# Altium footprint library BSP100.PcbLib: 3 footprints
Each footprint in its own frame and in the unit in brackets; x right, y up, seen from the top. Pads: shape width x height; smd on the part's side, far side on the other; paste and mask are expansions set on the pad; w line width, h text height; cw(c..) or ccw(c..) is an arc to the next point about the centre after c.
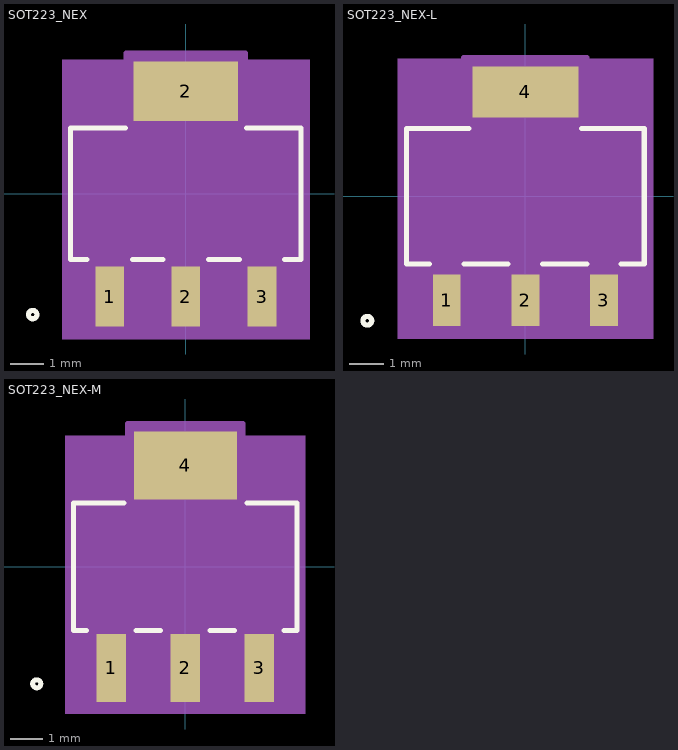
[diagram p0: the footprints below, top view; thin cyan lines are the x and y axes]

## SOT223_NEX [mil]
pads (4):
  rect 34x71 smd paste+0 mask+0: 1(-90.55,-122) 2(0,-122) 3(90.55,-122)
  rect 124x71 smd paste+0 mask+0: 2(0,122)
Top Overlay:
  circle w6: c-182,-143.5 r5
  lines w6: -117.52,-78 -137,-78 -137,78 -71.97,78 ; -63.58,-78 -26.97,-78 ; 26.97,-78 63.58,-78 ; 71.97,78 137,78 137,-78 117.52,-78
Mechanical 5:
  region: -147,159.5 147,159.5 147,-172.5 -147,-172.5
Mechanical 13:
  circle w0: c-122,-63 r5
  lines w1: -132,-73 -132,73 132,73 132,-73 -132,-73 ; -106.55,-143.5 -74.55,-143.5 -74.55,-73 -106.55,-73 -106.55,-143.5 ; -61,73 -61,143.5 61,143.5 61,73 -61,73 ; -16,-143.5 16,-143.5 16,-73 -16,-73 -16,-143.5 ; 74.55,-143.5 106.55,-143.5 106.55,-73 74.55,-73 74.55,-143.5
Mechanical 15:
  region: -142,-83 -142,83 -71,83 -71,167.5 71,167.5 71,83 142,83 142,-83 116.55,-83 116.55,-167.5 -116.55,-167.5 -116.55,-83
  lines w6: -142,-83 -116.55,-83 -116.55,-167.5 116.55,-167.5 116.55,-83 142,-83 142,83 71,83 71,167.5 -71,167.5 -71,83 -142,83 -142,-83
3D body "SOT223_NEX.step": height 71.1, standoff 0, extent -132.01,-143.5 132.01,143.5

## SOT223_NEX-L [mil]
pads (4):
  rect 32x59 smd paste+0 mask+0: 1(-90.55,-120) 2(0,-120) 3(90.55,-120)
  rect 122x59 smd paste+0 mask+0: 4(0,120)
Top Overlay:
  circle w6: c-182,-143.5 r5
  lines w6: -110.47,-78 -137,-78 -137,78 -64.92,78 ; -70.63,-78 -19.92,-78 ; 19.92,-78 70.63,-78 ; 64.92,78 137,78 137,-78 110.47,-78
Mechanical 5:
  region: -147,158.5 147,158.5 147,-164.5 -147,-164.5
Mechanical 13:
  circle w0: c-122,-63 r5
  lines w1: -132,-73 132,-73 132,73 -132,73 -132,-73 ; -106.55,-143.5 -106.55,-73 -74.55,-73 -74.55,-143.5 -106.55,-143.5 ; -61,73 61,73 61,143.5 -61,143.5 -61,73 ; -16,-143.5 -16,-73 16,-73 16,-143.5 -16,-143.5 ; 74.55,-143.5 74.55,-73 106.55,-73 106.55,-143.5 74.55,-143.5
Mechanical 15:
  region: -142,-83 -142,83 -71,83 -71,159.5 71,159.5 71,83 142,83 142,-83 116.55,-83 116.55,-159.5 -116.55,-159.5 -116.55,-83
  lines w6: -142,-83 -142,83 -71,83 -71,159.5 71,159.5 71,83 142,83 142,-83 116.55,-83 116.55,-159.5 -116.55,-159.5 -116.55,-83 -142,-83
3D body "SOT223_NEX.step": height 71.1, standoff 0, extent -132.01,-143.5 132.01,143.5

## SOT223_NEX-M [mil]
pads (4):
  rect 36x83 smd paste+0 mask+0: 1(-90.55,-124) 2(0,-124) 3(90.55,-124)
  rect 126x83 smd paste+0 mask+0: 4(0,124)
Top Overlay:
  circle w6: c-182,-143.5 r5
  lines w6: -120.85,-78 -137,-78 -137,78 -75.3,78 ; -60.25,-78 -30.3,-78 ; 30.3,-78 60.25,-78 ; 75.3,78 137,78 137,-78 120.85,-78
Mechanical 5:
  region: -147,160.5 147,160.5 147,-180.5 -147,-180.5
Mechanical 13:
  circle w0: c-122,-63 r5
  lines w1: -132,-73 132,-73 132,73 -132,73 -132,-73 ; -106.55,-143.5 -106.55,-73 -74.55,-73 -74.55,-143.5 -106.55,-143.5 ; -61,73 61,73 61,143.5 -61,143.5 -61,73 ; -16,-143.5 -16,-73 16,-73 16,-143.5 -16,-143.5 ; 74.55,-143.5 74.55,-73 106.55,-73 106.55,-143.5 74.55,-143.5
Mechanical 15:
  region: -142,-83 -142,83 -71,83 -71,175.5 71,175.5 71,83 142,83 142,-83 116.55,-83 116.55,-175.5 -116.55,-175.5 -116.55,-83
  lines w6: -142,-83 -142,83 -71,83 -71,175.5 71,175.5 71,83 142,83 142,-83 116.55,-83 116.55,-175.5 -116.55,-175.5 -116.55,-83 -142,-83
3D body "SOT223_NEX.step": height 71.1, standoff 0, extent -132.01,-143.5 132.01,143.5